# Altium integrated library TI_Logic_Specialty_Logic.IntLib: 2504 symbols (part 48 of 81)
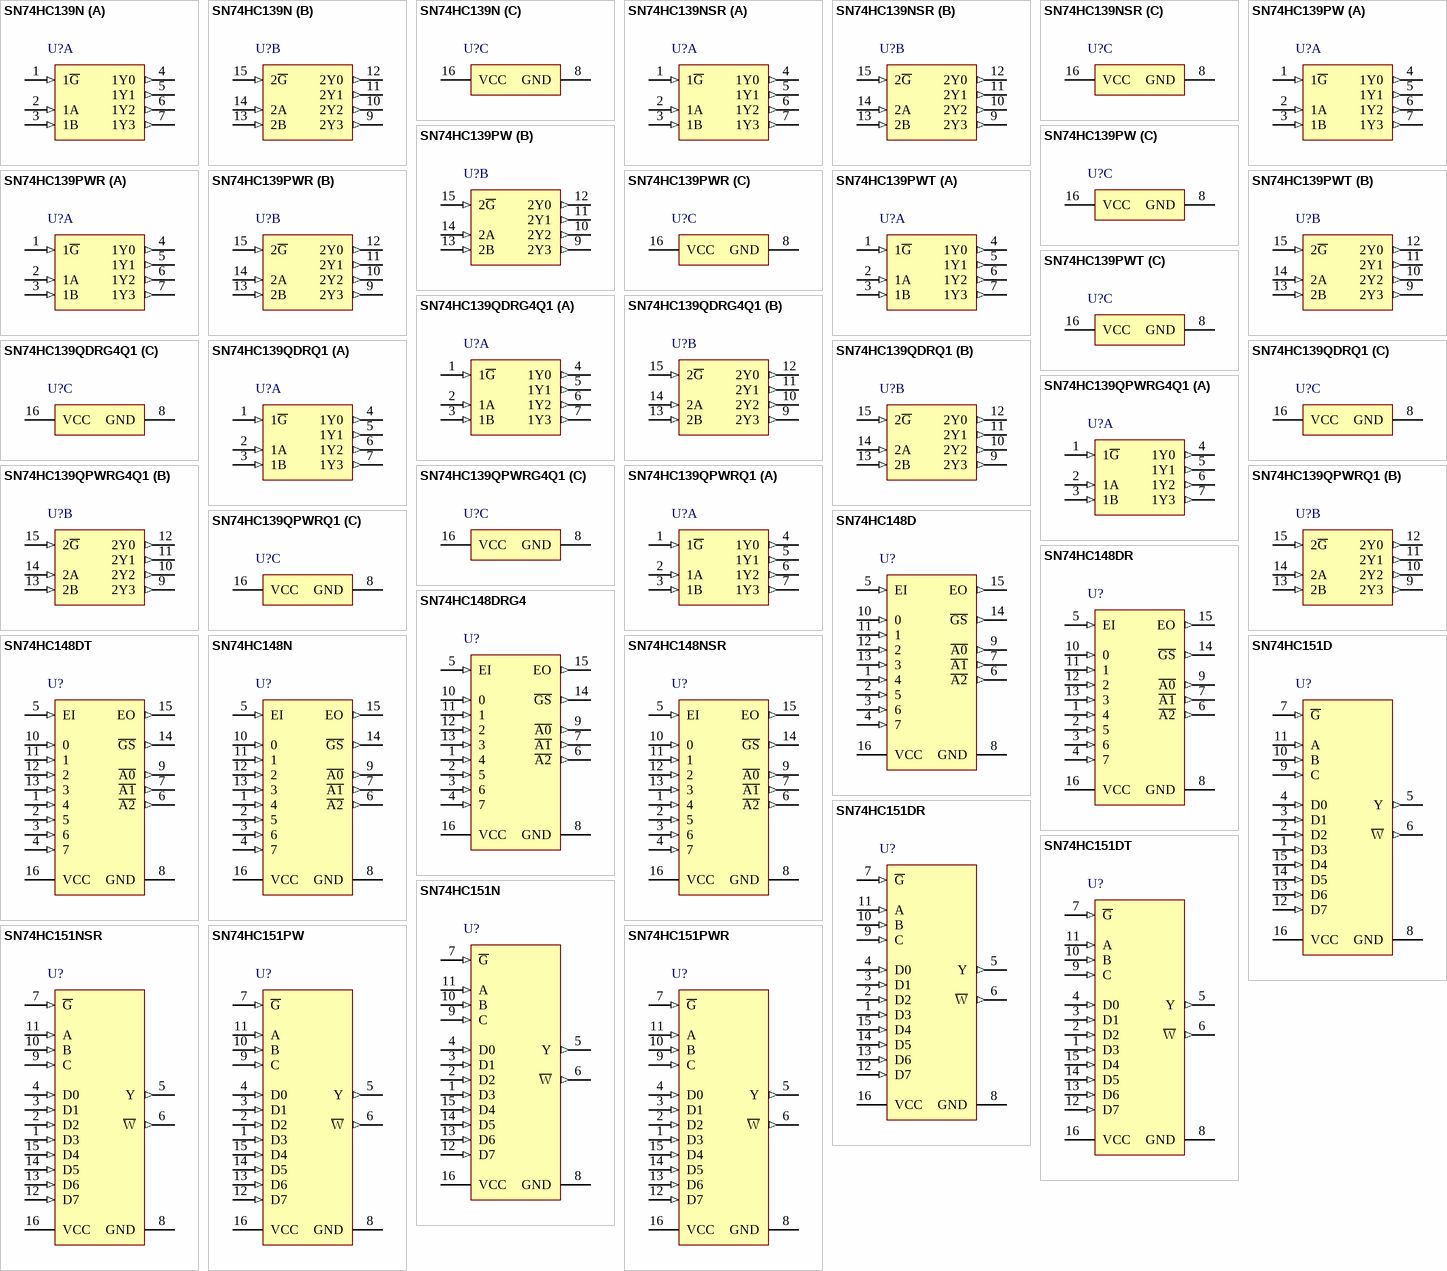
[diagram p151: symbols SN74HC139N to SN74HC151PWR]

## SN74HC151NSR
designator U?
8-Line To 1-Line Data Selectors/Multiplexers, NS0016A, LARGE T&R; Generic Part Number: SN74HC151; Manufacturer: Texas Instruments; PartNumber: SN74HC151NSR; VCC(Min)(V): 2; VCC(Max)(V): 6; Output Type: CMOS; Function: Encoder/Multiplexer; ICC @ Nom Voltage(Max)(mA): 0.08; Input Type: LVTTL/CMOS; Bits(#): 8; F @ Nom Voltage(Max)(Mhz): 28; Configuration: 8：1; Channels(#): 1; Rating: Catalog; Technology Family: HC; Voltage(Nom)(V): 3.3,5; Schmitt Trigger: No; Output Drive (IOL/IOH)(Max)(mA): 7.8/-7.8; tpd @ Nom Voltage(Max)(ns): 63; DatasheetVersion: SCLS110E; PackageReference: NS0016A; Supplier 1: Mouser; Supplier Part Number 1: 595-SN74HC151NSR; Supplier 2: Digi-Key; Supplier Part Number 2: 296-38794-2-ND; Supplier 3: Digi-Key; Supplier Part Number 3: 296-38794-1-ND; Supplier 4: Digi-Key; Supplier Part Number 4: 296-38794-6-ND; Operating Temperature Range(C): -40 to 85; Type: Standard; ComponentLink1Description: Manufacturer URL; ComponentLink1URL: http://www.ti.com/; ComponentLink2Description: Datasheet; ComponentLink2URL: http://www.ti.com/lit/ds/symlink/sn74hc151.pdf; ComponentLink3Description: Package Specification; ComponentLink3URL: http://www.ti.com/lit/ml/msop002a/msop002a.pdf
footprint NS0016A_N (SOIC,16-Leads,Body 10.5x5.6mm,Pitch 1.27mm,IPC Medium Density)
footprint NS0016A_M (SOIC,16-Leads,Body 10.5x5.6mm,Pitch 1.27mm,IPC Low Density)
footprint NS0016A_L (SOIC,16-Leads,Body 10.5x5.6mm,Pitch 1.27mm,IPC High Density)
pins: 1 D3 (in), 2 D2 (in), 3 D1 (in), 4 D0 (in), 5 Y (out), 6 ~{W} (out), 7 ~{G} (in), 8 GND (power), 9 C (in), 10 B (in), 11 A (in), 12 D7 (in), 13 D6 (in), 14 D5 (in), 15 D4 (in), 16 VCC (power)

## SN74HC151PW
designator U?
8-Line To 1-Line Data Selectors/Multiplexers, PW0016A, TUBE; Generic Part Number: SN74HC151; Manufacturer: Texas Instruments; PartNumber: SN74HC151PW; VCC(Min)(V): 2; VCC(Max)(V): 6; Output Type: CMOS; Function: Encoder/Multiplexer; ICC @ Nom Voltage(Max)(mA): 0.08; Input Type: LVTTL/CMOS; Bits(#): 8; F @ Nom Voltage(Max)(Mhz): 28; Configuration: 8：1; Channels(#): 1; Rating: Catalog; Technology Family: HC; Voltage(Nom)(V): 3.3,5; Schmitt Trigger: No; Output Drive (IOL/IOH)(Max)(mA): 7.8/-7.8; tpd @ Nom Voltage(Max)(ns): 63; DatasheetVersion: SCLS110E; PackageReference: PW0016A; Supplier 1: Mouser; Supplier Part Number 1: 595-SN74HC151PW; Supplier 2: Digi-Key; Supplier Part Number 2: 296-33918-5-ND; Operating Temperature Range(C): -40 to 85; Type: Standard; Code_JEDEC: MO-153; ComponentLink1Description: Manufacturer URL; ComponentLink1URL: http://www.ti.com/; ComponentLink2Description: Datasheet; ComponentLink2URL: http://www.ti.com/lit/ds/symlink/sn74hc151.pdf; ComponentLink3Description: Package Specification; ComponentLink3URL: http://www.ti.com/lit/ml/mpds361/mpds361.pdf
footprint PW0016A_N (SOP, 16-Leads, Body 5.1x4.5mm, Pitch 0.65mm, IPC Medium Density)
footprint PW0016A_M (SOP, 16-Leads, Body 5.1x4.5mm, Pitch 0.65mm, IPC Low Density)
footprint PW0016A_L (SOP, 16-Leads, Body 5.1x4.5mm, Pitch 0.65mm, IPC High Density)
pins: 1 D3 (in), 2 D2 (in), 3 D1 (in), 4 D0 (in), 5 Y (out), 6 ~{W} (out), 7 ~{G} (in), 8 GND (power), 9 C (in), 10 B (in), 11 A (in), 12 D7 (in), 13 D6 (in), 14 D5 (in), 15 D4 (in), 16 VCC (power)

## SN74HC151PWR
designator U?
8-Line To 1-Line Data Selectors/Multiplexers, PW0016A, LARGE T&R; Generic Part Number: SN74HC151; Manufacturer: Texas Instruments; PartNumber: SN74HC151PWR; VCC(Min)(V): 2; VCC(Max)(V): 6; Output Type: CMOS; Function: Encoder/Multiplexer; ICC @ Nom Voltage(Max)(mA): 0.08; Input Type: LVTTL/CMOS; Bits(#): 8; F @ Nom Voltage(Max)(Mhz): 28; Configuration: 8：1; Channels(#): 1; Rating: Catalog; Technology Family: HC; Voltage(Nom)(V): 3.3,5; Schmitt Trigger: No; Output Drive (IOL/IOH)(Max)(mA): 7.8/-7.8; tpd @ Nom Voltage(Max)(ns): 63; DatasheetVersion: SCLS110E; PackageReference: PW0016A; Supplier 1: Mouser; Supplier Part Number 1: 595-SN74HC151PWR; Supplier 2: Digi-Key; Supplier Part Number 2: 296-31785-2-ND; Supplier 3: Digi-Key; Supplier Part Number 3: 296-31785-1-ND; Supplier 4: Digi-Key; Supplier Part Number 4: 296-31785-6-ND; Operating Temperature Range(C): -40 to 85; Type: Standard; Code_JEDEC: MO-153; ComponentLink1Description: Manufacturer URL; ComponentLink1URL: http://www.ti.com/; ComponentLink2Description: Datasheet; ComponentLink2URL: http://www.ti.com/lit/ds/symlink/sn74hc151.pdf; ComponentLink3Description: Package Specification; ComponentLink3URL: http://www.ti.com/lit/ml/mpds361/mpds361.pdf
footprint PW0016A_N (SOP, 16-Leads, Body 5.1x4.5mm, Pitch 0.65mm, IPC Medium Density)
footprint PW0016A_M (SOP, 16-Leads, Body 5.1x4.5mm, Pitch 0.65mm, IPC Low Density)
footprint PW0016A_L (SOP, 16-Leads, Body 5.1x4.5mm, Pitch 0.65mm, IPC High Density)
pins: 1 D3 (in), 2 D2 (in), 3 D1 (in), 4 D0 (in), 5 Y (out), 6 ~{W} (out), 7 ~{G} (in), 8 GND (power), 9 C (in), 10 B (in), 11 A (in), 12 D7 (in), 13 D6 (in), 14 D5 (in), 15 D4 (in), 16 VCC (power)

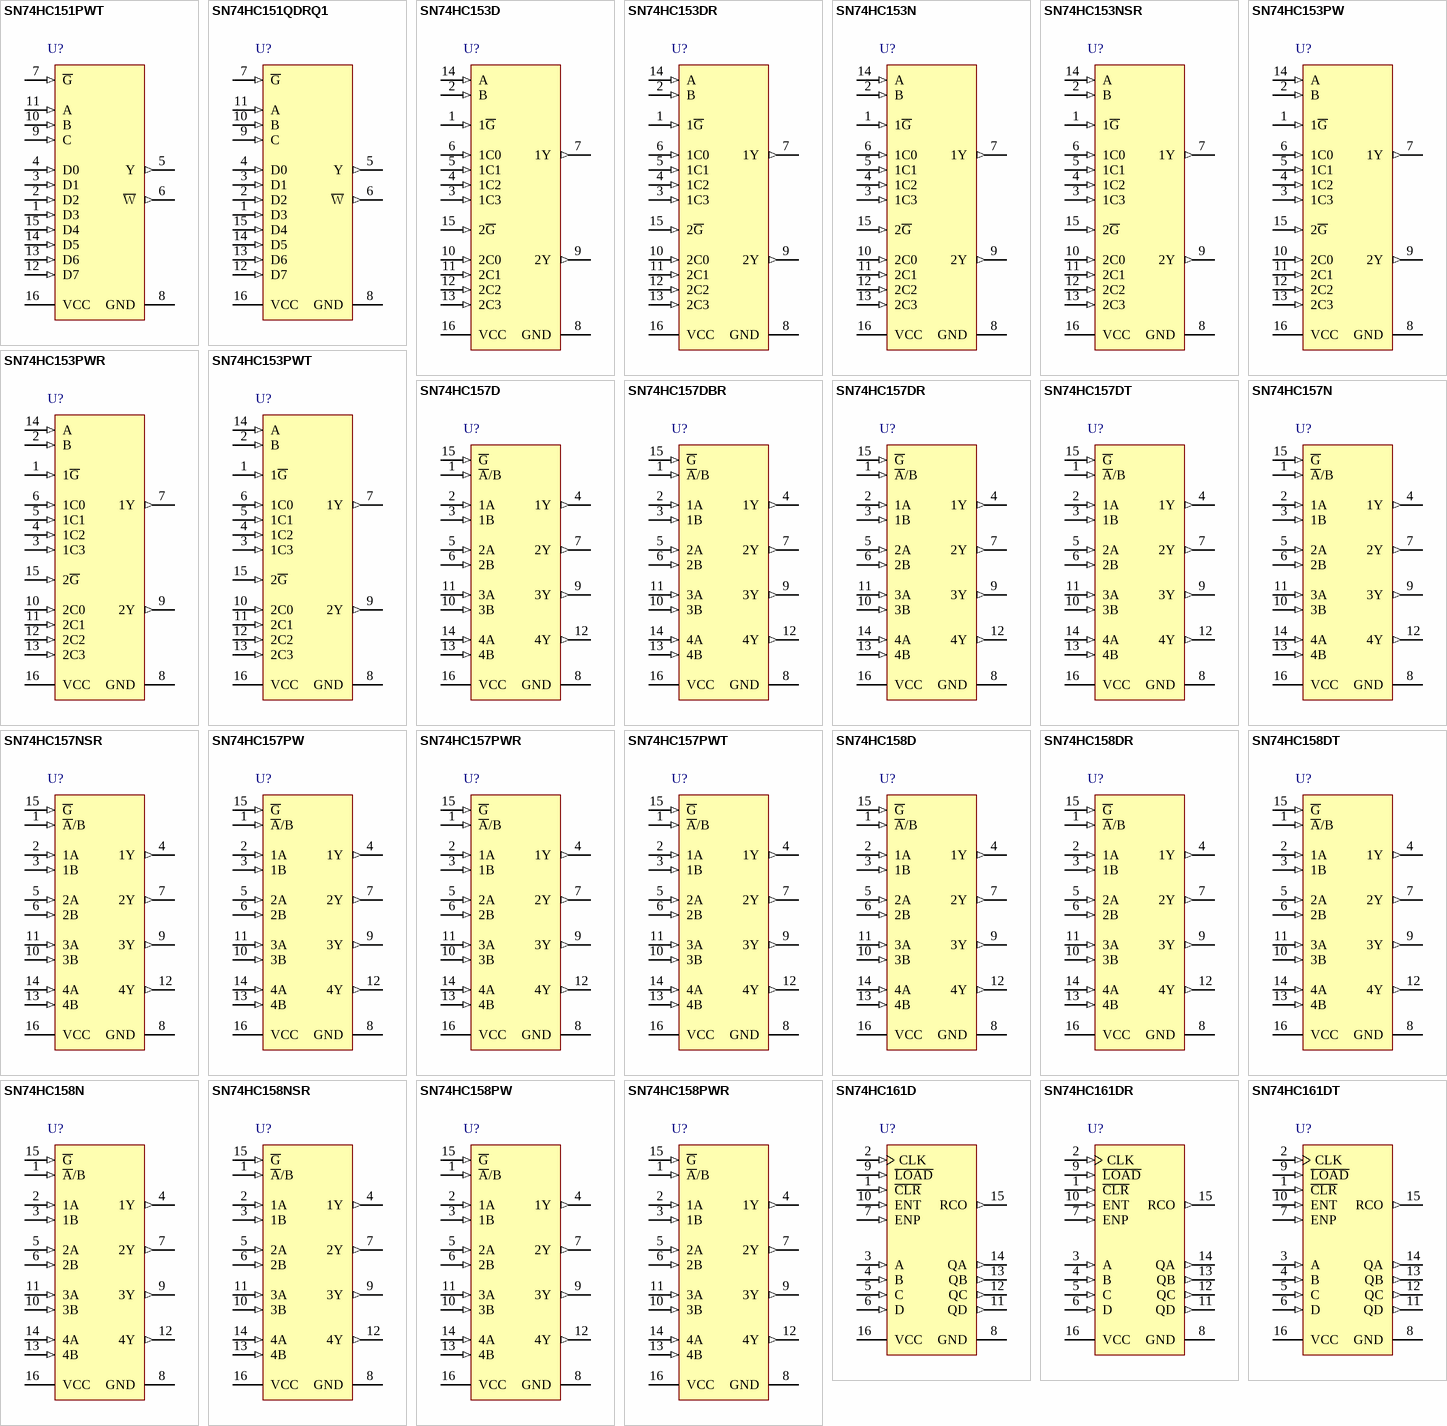
[diagram p61: symbols SN74HC151PWT to SN74HC161DT]

## SN74HC151PWT
designator U?
8-Line To 1-Line Data Selectors/Multiplexers, PW0016A, SMALL T&R; Generic Part Number: SN74HC151; Manufacturer: Texas Instruments; PartNumber: SN74HC151PWT; VCC(Min)(V): 2; VCC(Max)(V): 6; Output Type: CMOS; Function: Encoder/Multiplexer; ICC @ Nom Voltage(Max)(mA): 0.08; Input Type: LVTTL/CMOS; Bits(#): 8; F @ Nom Voltage(Max)(Mhz): 28; Configuration: 8：1; Channels(#): 1; Rating: Catalog; Technology Family: HC; Voltage(Nom)(V): 3.3,5; Schmitt Trigger: No; Output Drive (IOL/IOH)(Max)(mA): 7.8/-7.8; tpd @ Nom Voltage(Max)(ns): 63; DatasheetVersion: SCLS110E; PackageReference: PW0016A; Supplier 1: Mouser; Supplier Part Number 1: 595-SN74HC151PWT; Supplier 2: Digi-Key; Supplier Part Number 2: 296-31786-2-ND; Supplier 3: Digi-Key; Supplier Part Number 3: 296-31786-1-ND; Supplier 4: Digi-Key; Supplier Part Number 4: 296-31786-6-ND; Operating Temperature Range(C): -40 to 85; Type: Standard; Code_JEDEC: MO-153; ComponentLink1Description: Manufacturer URL; ComponentLink1URL: http://www.ti.com/; ComponentLink2Description: Datasheet; ComponentLink2URL: http://www.ti.com/lit/ds/symlink/sn74hc151.pdf; ComponentLink3Description: Package Specification; ComponentLink3URL: http://www.ti.com/lit/ml/mpds361/mpds361.pdf
footprint PW0016A_N (SOP, 16-Leads, Body 5.1x4.5mm, Pitch 0.65mm, IPC Medium Density)
footprint PW0016A_M (SOP, 16-Leads, Body 5.1x4.5mm, Pitch 0.65mm, IPC Low Density)
footprint PW0016A_L (SOP, 16-Leads, Body 5.1x4.5mm, Pitch 0.65mm, IPC High Density)
pins: 1 D3 (in), 2 D2 (in), 3 D1 (in), 4 D0 (in), 5 Y (out), 6 ~{W} (out), 7 ~{G} (in), 8 GND (power), 9 C (in), 10 B (in), 11 A (in), 12 D7 (in), 13 D6 (in), 14 D5 (in), 15 D4 (in), 16 VCC (power)

## SN74HC151QDRQ1
designator U?
Automotive Catalog 8-Line to 1-Line Data Selector/Multiplexer, D0016A, LARGE T&R; Generic Part Number: SN74HC151-Q1; Manufacturer: Texas Instruments; PartNumber: SN74HC151QDRQ1; VCC(Min)(V): 2; VCC(Max)(V): 6; Output Type: CMOS; ICC @ Nom Voltage(Max)(mA): 0.08; Input Type: LVTTL/CMOS; Bits(#): 8; F @ Nom Voltage(Max)(Mhz): 28; Channels(#): 1; Technology Family: HC; Voltage(Nom)(V): 3.3,5; Schmitt Trigger: No; Output Drive (IOL/IOH)(Max)(mA): 7.8/-7.8; tpd @ Nom Voltage(Max)(ns): 63; DatasheetVersion: SCLS701B; PackageReference: D0016A; Supplier 1: Mouser; Supplier Part Number 1: 595-SN74HC151QDRQ1; Supplier 2: Digi-Key; Supplier Part Number 2: 296-31787-2-ND; Supplier 3: Digi-Key; Supplier Part Number 3: 296-31787-1-ND; Supplier 4: Digi-Key; Supplier Part Number 4: 296-31787-6-ND; Operating Temperature Range(C): -40 to 125; Type: Standard; Rating: Automotive; Code_JEDEC: MS-012 variation AC; ComponentLink1Description: Manufacturer URL; ComponentLink1URL: http://www.ti.com/; ComponentLink2Description: Datasheet; ComponentLink2URL: http://www.ti.com/lit/ds/symlink/sn74hc151-q1.pdf; ComponentLink3Description: Package Specification; ComponentLink3URL: http://www.ti.com/lit/ml/mpds178g/mpds178g.pdf
footprint D0016A_N (SOIC, 16-Leads, Body 10x4mm, Pitch 1.27mm, IPC Medium Density)
footprint D0016A_M (SOIC, 16-Leads, Body 10x4mm, Pitch 1.27mm, IPC Low Density)
footprint D0016A_L (SOIC, 16-Leads, Body 10x4mm, Pitch 1.27mm, IPC High Density)
pins: 1 D3 (in), 2 D2 (in), 3 D1 (in), 4 D0 (in), 5 Y (out), 6 ~{W} (out), 7 ~{G} (in), 8 GND (power), 9 C (in), 10 B (in), 11 A (in), 12 D7 (in), 13 D6 (in), 14 D5 (in), 15 D4 (in), 16 VCC (power)

## SN74HC153D
designator U?
Dual 4-Line To 1-Line Data Selectors/Multiplexers, D0016A, TUBE; Generic Part Number: SN74HC153; Manufacturer: Texas Instruments; PartNumber: SN74HC153D; VCC(Min)(V): 2; VCC(Max)(V): 6; Output Type: CMOS; Function: Encoder/Multiplexer; ICC @ Nom Voltage(Max)(mA): 8; Input Type: LVTTL/CMOS; Bits(#): 4; F @ Nom Voltage(Max)(Mhz): 28; Configuration: 4：1; Rating: Catalog; Technology Family: HC; Voltage(Nom)(V): 3.3,5; Schmitt Trigger: No; Output Drive (IOL/IOH)(Max)(mA): 7.8/-7.8; tpd @ Nom Voltage(Max)(ns): 38; DatasheetVersion: SCLS112D; PackageReference: D0016A; Supplier 1: Mouser; Supplier Part Number 1: 595-SN74HC153D; Supplier 2: Digi-Key; Supplier Part Number 2: 296-8237-5-ND; Operating Temperature Range(C): -40 to 85; Type: Standard; Channels(#): 2; Code_JEDEC: MS-012 variation AC; ComponentLink1Description: Manufacturer URL; ComponentLink1URL: http://www.ti.com/; ComponentLink2Description: Datasheet; ComponentLink2URL: http://www.ti.com/lit/ds/symlink/sn74hc153.pdf; ComponentLink3Description: Package Specification; ComponentLink3URL: http://www.ti.com/lit/ml/mpds178g/mpds178g.pdf
footprint D0016A_N (SOIC, 16-Leads, Body 10x4mm, Pitch 1.27mm, IPC Medium Density)
footprint D0016A_M (SOIC, 16-Leads, Body 10x4mm, Pitch 1.27mm, IPC Low Density)
footprint D0016A_L (SOIC, 16-Leads, Body 10x4mm, Pitch 1.27mm, IPC High Density)
pins: 1 1~{G} (in), 2 B (in), 3 1C3 (in), 4 1C2 (in), 5 1C1 (in), 6 1C0 (in), 7 1Y (out), 8 GND (power), 9 2Y (out), 10 2C0 (in), 11 2C1 (in), 12 2C2 (in), 13 2C3 (in), 14 A (in), 15 2~{G} (in), 16 VCC (power)

## SN74HC153DR
designator U?
Dual 4-Line To 1-Line Data Selectors/Multiplexers, D0016A, LARGE T&R; Generic Part Number: SN74HC153; Manufacturer: Texas Instruments; PartNumber: SN74HC153DR; VCC(Min)(V): 2; VCC(Max)(V): 6; Output Type: CMOS; Function: Encoder/Multiplexer; ICC @ Nom Voltage(Max)(mA): 8; Input Type: LVTTL/CMOS; Bits(#): 4; F @ Nom Voltage(Max)(Mhz): 28; Configuration: 4：1; Rating: Catalog; Technology Family: HC; Voltage(Nom)(V): 3.3,5; Schmitt Trigger: No; Output Drive (IOL/IOH)(Max)(mA): 7.8/-7.8; tpd @ Nom Voltage(Max)(ns): 38; DatasheetVersion: SCLS112D; PackageReference: D0016A; Supplier 1: Mouser; Supplier Part Number 1: 595-SN74HC153DR; Supplier 2: Digi-Key; Supplier Part Number 2: 296-14835-2-ND; Supplier 3: Digi-Key; Supplier Part Number 3: 296-14835-1-ND; Supplier 4: Digi-Key; Supplier Part Number 4: 296-14835-6-ND; Operating Temperature Range(C): -40 to 85; Type: Standard; Channels(#): 2; Code_JEDEC: MS-012 variation AC; ComponentLink1Description: Manufacturer URL; ComponentLink1URL: http://www.ti.com/; ComponentLink2Description: Datasheet; ComponentLink2URL: http://www.ti.com/lit/ds/symlink/sn74hc153.pdf; ComponentLink3Description: Package Specification; ComponentLink3URL: http://www.ti.com/lit/ml/mpds178g/mpds178g.pdf
footprint D0016A_N (SOIC, 16-Leads, Body 10x4mm, Pitch 1.27mm, IPC Medium Density)
footprint D0016A_M (SOIC, 16-Leads, Body 10x4mm, Pitch 1.27mm, IPC Low Density)
footprint D0016A_L (SOIC, 16-Leads, Body 10x4mm, Pitch 1.27mm, IPC High Density)
pins: 1 1~{G} (in), 2 B (in), 3 1C3 (in), 4 1C2 (in), 5 1C1 (in), 6 1C0 (in), 7 1Y (out), 8 GND (power), 9 2Y (out), 10 2C0 (in), 11 2C1 (in), 12 2C2 (in), 13 2C3 (in), 14 A (in), 15 2~{G} (in), 16 VCC (power)

## SN74HC153N
designator U?
Dual 4-Line To 1-Line Data Selectors/Multiplexers, N0016A, TUBE; Generic Part Number: SN74HC153; Manufacturer: Texas Instruments; PartNumber: SN74HC153N; VCC(Min)(V): 2; VCC(Max)(V): 6; Output Type: CMOS; Function: Encoder/Multiplexer; ICC @ Nom Voltage(Max)(mA): 8; Input Type: LVTTL/CMOS; Bits(#): 4; F @ Nom Voltage(Max)(Mhz): 28; Configuration: 4：1; Rating: Catalog; Technology Family: HC; Voltage(Nom)(V): 3.3,5; Schmitt Trigger: No; Output Drive (IOL/IOH)(Max)(mA): 7.8/-7.8; tpd @ Nom Voltage(Max)(ns): 38; DatasheetVersion: SCLS112D; PackageReference: N0016A; Supplier 1: Mouser; Supplier Part Number 1: 595-SN74HC153N; Supplier 2: Digi-Key; Supplier Part Number 2: 296-8238-5-ND; Operating Temperature Range(C): -40 to 85; Type: Standard; Channels(#): 2; Code_JEDEC: MS-001; ComponentLink1Description: Manufacturer URL; ComponentLink1URL: http://www.ti.com/; ComponentLink2Description: Datasheet; ComponentLink2URL: http://www.ti.com/lit/ds/symlink/sn74hc153.pdf; ComponentLink3Description: Package Specification; ComponentLink3URL: http://www.ti.com/lit/ml/mpdi002c/mpdi002c.pdf
footprint N0016A (DIP, 16-Leads, Body 19.7x6.6mm, Pitch 2.54mm)
pins: 1 1~{G} (in), 2 B (in), 3 1C3 (in), 4 1C2 (in), 5 1C1 (in), 6 1C0 (in), 7 1Y (out), 8 GND (power), 9 2Y (out), 10 2C0 (in), 11 2C1 (in), 12 2C2 (in), 13 2C3 (in), 14 A (in), 15 2~{G} (in), 16 VCC (power)

## SN74HC153NSR
designator U?
Dual 4-Line To 1-Line Data Selectors/Multiplexers, NS0016A, LARGE T&R; Generic Part Number: SN74HC153; Manufacturer: Texas Instruments; PartNumber: SN74HC153NSR; VCC(Min)(V): 2; VCC(Max)(V): 6; Output Type: CMOS; Function: Encoder/Multiplexer; ICC @ Nom Voltage(Max)(mA): 8; Input Type: LVTTL/CMOS; Bits(#): 4; F @ Nom Voltage(Max)(Mhz): 28; Configuration: 4：1; Rating: Catalog; Technology Family: HC; Voltage(Nom)(V): 3.3,5; Schmitt Trigger: No; Output Drive (IOL/IOH)(Max)(mA): 7.8/-7.8; tpd @ Nom Voltage(Max)(ns): 38; DatasheetVersion: SCLS112D; PackageReference: NS0016A; Supplier 1: Mouser; Supplier Part Number 1: 595-SN74HC153NSR; Supplier 2: Digi-Key; Supplier Part Number 2: 296-28656-2-ND; Supplier 3: Digi-Key; Supplier Part Number 3: 296-28656-1-ND; Supplier 4: Digi-Key; Supplier Part Number 4: 296-28656-6-ND; Operating Temperature Range(C): -40 to 85; Type: Standard; Channels(#): 2; ComponentLink1Description: Manufacturer URL; ComponentLink1URL: http://www.ti.com/; ComponentLink2Description: Datasheet; ComponentLink2URL: http://www.ti.com/lit/ds/symlink/sn74hc153.pdf; ComponentLink3Description: Package Specification; ComponentLink3URL: http://www.ti.com/lit/ml/msop002a/msop002a.pdf
footprint NS0016A_N (SOIC,16-Leads,Body 10.5x5.6mm,Pitch 1.27mm,IPC Medium Density)
footprint NS0016A_M (SOIC,16-Leads,Body 10.5x5.6mm,Pitch 1.27mm,IPC Low Density)
footprint NS0016A_L (SOIC,16-Leads,Body 10.5x5.6mm,Pitch 1.27mm,IPC High Density)
pins: 1 1~{G} (in), 2 B (in), 3 1C3 (in), 4 1C2 (in), 5 1C1 (in), 6 1C0 (in), 7 1Y (out), 8 GND (power), 9 2Y (out), 10 2C0 (in), 11 2C1 (in), 12 2C2 (in), 13 2C3 (in), 14 A (in), 15 2~{G} (in), 16 VCC (power)

## SN74HC153PW
designator U?
Dual 4-Line To 1-Line Data Selectors/Multiplexers, PW0016A, TUBE; Generic Part Number: SN74HC153; Manufacturer: Texas Instruments; PartNumber: SN74HC153PW; VCC(Min)(V): 2; VCC(Max)(V): 6; Output Type: CMOS; Function: Encoder/Multiplexer; ICC @ Nom Voltage(Max)(mA): 8; Input Type: LVTTL/CMOS; Bits(#): 4; F @ Nom Voltage(Max)(Mhz): 28; Configuration: 4：1; Rating: Catalog; Technology Family: HC; Voltage(Nom)(V): 3.3,5; Schmitt Trigger: No; Output Drive (IOL/IOH)(Max)(mA): 7.8/-7.8; tpd @ Nom Voltage(Max)(ns): 38; DatasheetVersion: SCLS112D; PackageReference: PW0016A; Supplier 1: Mouser; Supplier Part Number 1: 595-SN74HC153PW; Supplier 2: Digi-Key; Supplier Part Number 2: 296-33919-5-ND; Operating Temperature Range(C): -40 to 85; Type: Standard; Channels(#): 2; Code_JEDEC: MO-153; ComponentLink1Description: Manufacturer URL; ComponentLink1URL: http://www.ti.com/; ComponentLink2Description: Datasheet; ComponentLink2URL: http://www.ti.com/lit/ds/symlink/sn74hc153.pdf; ComponentLink3Description: Package Specification; ComponentLink3URL: http://www.ti.com/lit/ml/mpds361/mpds361.pdf
footprint PW0016A_N (SOP, 16-Leads, Body 5.1x4.5mm, Pitch 0.65mm, IPC Medium Density)
footprint PW0016A_M (SOP, 16-Leads, Body 5.1x4.5mm, Pitch 0.65mm, IPC Low Density)
footprint PW0016A_L (SOP, 16-Leads, Body 5.1x4.5mm, Pitch 0.65mm, IPC High Density)
pins: 1 1~{G} (in), 2 B (in), 3 1C3 (in), 4 1C2 (in), 5 1C1 (in), 6 1C0 (in), 7 1Y (out), 8 GND (power), 9 2Y (out), 10 2C0 (in), 11 2C1 (in), 12 2C2 (in), 13 2C3 (in), 14 A (in), 15 2~{G} (in), 16 VCC (power)

## SN74HC153PWR
designator U?
Dual 4-Line To 1-Line Data Selectors/Multiplexers, PW0016A, LARGE T&R; Generic Part Number: SN74HC153; Manufacturer: Texas Instruments; PartNumber: SN74HC153PWR; VCC(Min)(V): 2; VCC(Max)(V): 6; Output Type: CMOS; Function: Encoder/Multiplexer; ICC @ Nom Voltage(Max)(mA): 8; Input Type: LVTTL/CMOS; Bits(#): 4; F @ Nom Voltage(Max)(Mhz): 28; Configuration: 4：1; Rating: Catalog; Technology Family: HC; Voltage(Nom)(V): 3.3,5; Schmitt Trigger: No; Output Drive (IOL/IOH)(Max)(mA): 7.8/-7.8; tpd @ Nom Voltage(Max)(ns): 38; DatasheetVersion: SCLS112D; PackageReference: PW0016A; Supplier 1: Mouser; Supplier Part Number 1: 595-SN74HC153PWR; Supplier 2: Digi-Key; Supplier Part Number 2: 296-12888-2-ND; Supplier 3: Digi-Key; Supplier Part Number 3: 296-12888-1-ND; Supplier 4: Digi-Key; Supplier Part Number 4: 296-12888-6-ND; Operating Temperature Range(C): -40 to 85; Type: Standard; Channels(#): 2; Code_JEDEC: MO-153; ComponentLink1Description: Manufacturer URL; ComponentLink1URL: http://www.ti.com/; ComponentLink2Description: Datasheet; ComponentLink2URL: http://www.ti.com/lit/ds/symlink/sn74hc153.pdf; ComponentLink3Description: Package Specification; ComponentLink3URL: http://www.ti.com/lit/ml/mpds361/mpds361.pdf
footprint PW0016A_N (SOP, 16-Leads, Body 5.1x4.5mm, Pitch 0.65mm, IPC Medium Density)
footprint PW0016A_M (SOP, 16-Leads, Body 5.1x4.5mm, Pitch 0.65mm, IPC Low Density)
footprint PW0016A_L (SOP, 16-Leads, Body 5.1x4.5mm, Pitch 0.65mm, IPC High Density)
pins: 1 1~{G} (in), 2 B (in), 3 1C3 (in), 4 1C2 (in), 5 1C1 (in), 6 1C0 (in), 7 1Y (out), 8 GND (power), 9 2Y (out), 10 2C0 (in), 11 2C1 (in), 12 2C2 (in), 13 2C3 (in), 14 A (in), 15 2~{G} (in), 16 VCC (power)

## SN74HC153PWT
designator U?
Dual 4-Line To 1-Line Data Selectors/Multiplexers, PW0016A, SMALL T&R; Generic Part Number: SN74HC153; Manufacturer: Texas Instruments; PartNumber: SN74HC153PWT; VCC(Min)(V): 2; VCC(Max)(V): 6; Output Type: CMOS; Function: Encoder/Multiplexer; ICC @ Nom Voltage(Max)(mA): 8; Input Type: LVTTL/CMOS; Bits(#): 4; F @ Nom Voltage(Max)(Mhz): 28; Configuration: 4：1; Rating: Catalog; Technology Family: HC; Voltage(Nom)(V): 3.3,5; Schmitt Trigger: No; Output Drive (IOL/IOH)(Max)(mA): 7.8/-7.8; tpd @ Nom Voltage(Max)(ns): 38; DatasheetVersion: SCLS112D; PackageReference: PW0016A; Supplier 1: Mouser; Supplier Part Number 1: 595-SN74HC153PWT; Supplier 2: Digi-Key; Supplier Part Number 2: 296-31788-2-ND; Supplier 3: Digi-Key; Supplier Part Number 3: 296-31788-1-ND; Supplier 4: Digi-Key; Supplier Part Number 4: 296-31788-6-ND; Operating Temperature Range(C): -40 to 85; Type: Standard; Channels(#): 2; Code_JEDEC: MO-153; ComponentLink1Description: Manufacturer URL; ComponentLink1URL: http://www.ti.com/; ComponentLink2Description: Datasheet; ComponentLink2URL: http://www.ti.com/lit/ds/symlink/sn74hc153.pdf; ComponentLink3Description: Package Specification; ComponentLink3URL: http://www.ti.com/lit/ml/mpds361/mpds361.pdf
footprint PW0016A_N (SOP, 16-Leads, Body 5.1x4.5mm, Pitch 0.65mm, IPC Medium Density)
footprint PW0016A_M (SOP, 16-Leads, Body 5.1x4.5mm, Pitch 0.65mm, IPC Low Density)
footprint PW0016A_L (SOP, 16-Leads, Body 5.1x4.5mm, Pitch 0.65mm, IPC High Density)
pins: 1 1~{G} (in), 2 B (in), 3 1C3 (in), 4 1C2 (in), 5 1C1 (in), 6 1C0 (in), 7 1Y (out), 8 GND (power), 9 2Y (out), 10 2C0 (in), 11 2C1 (in), 12 2C2 (in), 13 2C3 (in), 14 A (in), 15 2~{G} (in), 16 VCC (power)

## SN74HC157D
designator U?
Quadruple 2-Line To 1-Line Data Selectors/Multiplexers, D0016A, TUBE; Generic Part Number: SN74HC157; Manufacturer: Texas Instruments; PartNumber: SN74HC157D; VCC(Min)(V): 2; VCC(Max)(V): 6; Output Type: CMOS; Function: Encoder/Multiplexer; ICC @ Nom Voltage(Max)(mA): 10; Input Type: LVTTL/CMOS; F @ Nom Voltage(Max)(Mhz): 28; Configuration: 2：1; Channels(#): 4; Rating: Catalog; Technology Family: HC; Voltage(Nom)(V): 3.3,5; Schmitt Trigger: No; Output Drive (IOL/IOH)(Max)(mA): 7.8/-7.8; tpd @ Nom Voltage(Max)(ns): 32; DatasheetVersion: SCLS113D; PackageReference: D0016A; Supplier 1: Mouser; Supplier Part Number 1: 595-SN74HC157D; Supplier 2: Digi-Key; Supplier Part Number 2: 296-8239-5-ND; Bits(#): 2; Operating Temperature Range(C): -40 to 85; Type: Standard; Code_JEDEC: MS-012 variation AC; ComponentLink1Description: Manufacturer URL; ComponentLink1URL: http://www.ti.com/; ComponentLink2Description: Datasheet; ComponentLink2URL: http://www.ti.com/lit/ds/symlink/sn74hc157.pdf; ComponentLink3Description: Package Specification; ComponentLink3URL: http://www.ti.com/lit/ml/mpds178g/mpds178g.pdf
footprint D0016A_N (SOIC, 16-Leads, Body 10x4mm, Pitch 1.27mm, IPC Medium Density)
footprint D0016A_M (SOIC, 16-Leads, Body 10x4mm, Pitch 1.27mm, IPC Low Density)
footprint D0016A_L (SOIC, 16-Leads, Body 10x4mm, Pitch 1.27mm, IPC High Density)
pins: 1 ~{A}/B (in), 2 1A (in), 3 1B (in), 4 1Y (out), 5 2A (in), 6 2B (in), 7 2Y (out), 8 GND (power), 9 3Y (out), 10 3B (in), 11 3A (in), 12 4Y (out), 13 4B (in), 14 4A (in), 15 ~{G} (in), 16 VCC (power)

## SN74HC157DBR
designator U?
Quadruple 2-Line To 1-Line Data Selectors/Multiplexers, DB0016A, LARGE T&R; Generic Part Number: SN74HC157; Manufacturer: Texas Instruments; PartNumber: SN74HC157DBR; VCC(Min)(V): 2; VCC(Max)(V): 6; Output Type: CMOS; Function: Encoder/Multiplexer; ICC @ Nom Voltage(Max)(mA): 10; Input Type: LVTTL/CMOS; F @ Nom Voltage(Max)(Mhz): 28; Configuration: 2：1; Channels(#): 4; Rating: Catalog; Technology Family: HC; Voltage(Nom)(V): 3.3,5; Schmitt Trigger: No; Output Drive (IOL/IOH)(Max)(mA): 7.8/-7.8; tpd @ Nom Voltage(Max)(ns): 32; DatasheetVersion: SCLS113D; PackageReference: DB0016A; Supplier 1: Mouser; Supplier Part Number 1: 595-SN74HC157DBR; Supplier 2: Digi-Key; Supplier Part Number 2: 296-38795-2-ND; Supplier 3: Digi-Key; Supplier Part Number 3: 296-38795-1-ND; Supplier 4: Digi-Key; Supplier Part Number 4: 296-38795-6-ND; Bits(#): 2; Operating Temperature Range(C): -40 to 85; Type: Standard; Code_JEDEC: MO-150; ComponentLink1Description: Manufacturer URL; ComponentLink1URL: http://www.ti.com/; ComponentLink2Description: Datasheet; ComponentLink2URL: http://www.ti.com/lit/ds/symlink/sn74hc157.pdf; ComponentLink3Description: Package Specification; ComponentLink3URL: http://www.ti.com/lit/ml/mpds507/mpds507.pdf
footprint DB0016A_N (SOP, 16-Leads, Body 5.6x6.5mm, Pitch 0.65mm, IPC Medium Density)
footprint DB0016A_M (SOP, 16-Leads, Body 5.6x6.5mm, Pitch 0.65mm, IPC Low Density)
footprint DB0016A_L (SOP, 16-Leads, Body 5.6x6.5mm, Pitch 0.65mm, IPC High Density)
pins: 1 ~{A}/B (in), 2 1A (in), 3 1B (in), 4 1Y (out), 5 2A (in), 6 2B (in), 7 2Y (out), 8 GND (power), 9 3Y (out), 10 3B (in), 11 3A (in), 12 4Y (out), 13 4B (in), 14 4A (in), 15 ~{G} (in), 16 VCC (power)

## SN74HC157DR
designator U?
Quadruple 2-Line To 1-Line Data Selectors/Multiplexers, D0016A, LARGE T&R; Generic Part Number: SN74HC157; Manufacturer: Texas Instruments; PartNumber: SN74HC157DR; VCC(Min)(V): 2; VCC(Max)(V): 6; Output Type: CMOS; Function: Encoder/Multiplexer; ICC @ Nom Voltage(Max)(mA): 10; Input Type: LVTTL/CMOS; F @ Nom Voltage(Max)(Mhz): 28; Configuration: 2：1; Channels(#): 4; Rating: Catalog; Technology Family: HC; Voltage(Nom)(V): 3.3,5; Schmitt Trigger: No; Output Drive (IOL/IOH)(Max)(mA): 7.8/-7.8; tpd @ Nom Voltage(Max)(ns): 32; DatasheetVersion: SCLS113D; PackageReference: D0016A; Supplier 1: Mouser; Supplier Part Number 1: 595-SN74HC157DR; Supplier 2: Digi-Key; Supplier Part Number 2: 296-14836-2-ND; Supplier 3: Digi-Key; Supplier Part Number 3: 296-14836-1-ND; Supplier 4: Digi-Key; Supplier Part Number 4: 296-14836-6-ND; Bits(#): 2; Operating Temperature Range(C): -40 to 85; Type: Standard; Code_JEDEC: MS-012 variation AC; ComponentLink1Description: Manufacturer URL; ComponentLink1URL: http://www.ti.com/; ComponentLink2Description: Datasheet; ComponentLink2URL: http://www.ti.com/lit/ds/symlink/sn74hc157.pdf; ComponentLink3Description: Package Specification; ComponentLink3URL: http://www.ti.com/lit/ml/mpds178g/mpds178g.pdf
footprint D0016A_N (SOIC, 16-Leads, Body 10x4mm, Pitch 1.27mm, IPC Medium Density)
footprint D0016A_M (SOIC, 16-Leads, Body 10x4mm, Pitch 1.27mm, IPC Low Density)
footprint D0016A_L (SOIC, 16-Leads, Body 10x4mm, Pitch 1.27mm, IPC High Density)
pins: 1 ~{A}/B (in), 2 1A (in), 3 1B (in), 4 1Y (out), 5 2A (in), 6 2B (in), 7 2Y (out), 8 GND (power), 9 3Y (out), 10 3B (in), 11 3A (in), 12 4Y (out), 13 4B (in), 14 4A (in), 15 ~{G} (in), 16 VCC (power)

## SN74HC157DT
designator U?
Quadruple 2-Line To 1-Line Data Selectors/Multiplexers, D0016A, SMALL T&R; Generic Part Number: SN74HC157; Manufacturer: Texas Instruments; PartNumber: SN74HC157DT; VCC(Min)(V): 2; VCC(Max)(V): 6; Output Type: CMOS; Function: Encoder/Multiplexer; ICC @ Nom Voltage(Max)(mA): 10; Input Type: LVTTL/CMOS; F @ Nom Voltage(Max)(Mhz): 28; Configuration: 2：1; Channels(#): 4; Rating: Catalog; Technology Family: HC; Voltage(Nom)(V): 3.3,5; Schmitt Trigger: No; Output Drive (IOL/IOH)(Max)(mA): 7.8/-7.8; tpd @ Nom Voltage(Max)(ns): 32; DatasheetVersion: SCLS113D; PackageReference: D0016A; Supplier 1: Mouser; Supplier Part Number 1: 595-SN74HC157DT; Supplier 2: Digi-Key; Supplier Part Number 2: SN74HC157DT-ND; Bits(#): 2; Operating Temperature Range(C): -40 to 85; Type: Standard; Code_JEDEC: MS-012 variation AC; ComponentLink1Description: Manufacturer URL; ComponentLink1URL: http://www.ti.com/; ComponentLink2Description: Datasheet; ComponentLink2URL: http://www.ti.com/lit/ds/symlink/sn74hc157.pdf; ComponentLink3Description: Package Specification; ComponentLink3URL: http://www.ti.com/lit/ml/mpds178g/mpds178g.pdf
footprint D0016A_N (SOIC, 16-Leads, Body 10x4mm, Pitch 1.27mm, IPC Medium Density)
footprint D0016A_M (SOIC, 16-Leads, Body 10x4mm, Pitch 1.27mm, IPC Low Density)
footprint D0016A_L (SOIC, 16-Leads, Body 10x4mm, Pitch 1.27mm, IPC High Density)
pins: 1 ~{A}/B (in), 2 1A (in), 3 1B (in), 4 1Y (out), 5 2A (in), 6 2B (in), 7 2Y (out), 8 GND (power), 9 3Y (out), 10 3B (in), 11 3A (in), 12 4Y (out), 13 4B (in), 14 4A (in), 15 ~{G} (in), 16 VCC (power)

## SN74HC157N
designator U?
Quadruple 2-Line To 1-Line Data Selectors/Multiplexers, N0016A, TUBE; Generic Part Number: SN74HC157; Manufacturer: Texas Instruments; PartNumber: SN74HC157N; VCC(Min)(V): 2; VCC(Max)(V): 6; Output Type: CMOS; Function: Encoder/Multiplexer; ICC @ Nom Voltage(Max)(mA): 10; Input Type: LVTTL/CMOS; F @ Nom Voltage(Max)(Mhz): 28; Configuration: 2：1; Channels(#): 4; Rating: Catalog; Technology Family: HC; Voltage(Nom)(V): 3.3,5; Schmitt Trigger: No; Output Drive (IOL/IOH)(Max)(mA): 7.8/-7.8; tpd @ Nom Voltage(Max)(ns): 32; DatasheetVersion: SCLS113D; PackageReference: N0016A; Supplier 1: Mouser; Supplier Part Number 1: 595-SN74HC157N; Supplier 2: Digi-Key; Supplier Part Number 2: 296-1578-5-ND; Bits(#): 2; Operating Temperature Range(C): -40 to 85; Type: Standard; Code_JEDEC: MS-001; ComponentLink1Description: Manufacturer URL; ComponentLink1URL: http://www.ti.com/; ComponentLink2Description: Datasheet; ComponentLink2URL: http://www.ti.com/lit/ds/symlink/sn74hc157.pdf; ComponentLink3Description: Package Specification; ComponentLink3URL: http://www.ti.com/lit/ml/mpdi002c/mpdi002c.pdf
footprint N0016A (DIP, 16-Leads, Body 19.7x6.6mm, Pitch 2.54mm)
pins: 1 ~{A}/B (in), 2 1A (in), 3 1B (in), 4 1Y (out), 5 2A (in), 6 2B (in), 7 2Y (out), 8 GND (power), 9 3Y (out), 10 3B (in), 11 3A (in), 12 4Y (out), 13 4B (in), 14 4A (in), 15 ~{G} (in), 16 VCC (power)

## SN74HC157NSR
designator U?
Quadruple 2-Line To 1-Line Data Selectors/Multiplexers, NS0016A, LARGE T&R; Generic Part Number: SN74HC157; Manufacturer: Texas Instruments; PartNumber: SN74HC157NSR; VCC(Min)(V): 2; VCC(Max)(V): 6; Output Type: CMOS; Function: Encoder/Multiplexer; ICC @ Nom Voltage(Max)(mA): 10; Input Type: LVTTL/CMOS; F @ Nom Voltage(Max)(Mhz): 28; Configuration: 2：1; Channels(#): 4; Rating: Catalog; Technology Family: HC; Voltage(Nom)(V): 3.3,5; Schmitt Trigger: No; Output Drive (IOL/IOH)(Max)(mA): 7.8/-7.8; tpd @ Nom Voltage(Max)(ns): 32; DatasheetVersion: SCLS113D; PackageReference: NS0016A; Supplier 1: Mouser; Supplier Part Number 1: 595-SN74HC157NSR; Supplier 2: Digi-Key; Supplier Part Number 2: 296-8240-2-ND; Supplier 3: Digi-Key; Supplier Part Number 3: 296-8240-1-ND; Supplier 4: Digi-Key; Supplier Part Number 4: 296-8240-6-ND; Bits(#): 2; Operating Temperature Range(C): -40 to 85; Type: Standard; ComponentLink1Description: Manufacturer URL; ComponentLink1URL: http://www.ti.com/; ComponentLink2Description: Datasheet; ComponentLink2URL: http://www.ti.com/lit/ds/symlink/sn74hc157.pdf; ComponentLink3Description: Package Specification; ComponentLink3URL: http://www.ti.com/lit/ml/msop002a/msop002a.pdf
footprint NS0016A_N (SOIC,16-Leads,Body 10.5x5.6mm,Pitch 1.27mm,IPC Medium Density)
footprint NS0016A_M (SOIC,16-Leads,Body 10.5x5.6mm,Pitch 1.27mm,IPC Low Density)
footprint NS0016A_L (SOIC,16-Leads,Body 10.5x5.6mm,Pitch 1.27mm,IPC High Density)
pins: 1 ~{A}/B (in), 2 1A (in), 3 1B (in), 4 1Y (out), 5 2A (in), 6 2B (in), 7 2Y (out), 8 GND (power), 9 3Y (out), 10 3B (in), 11 3A (in), 12 4Y (out), 13 4B (in), 14 4A (in), 15 ~{G} (in), 16 VCC (power)

## SN74HC157PW
designator U?
Quadruple 2-Line To 1-Line Data Selectors/Multiplexers, PW0016A, TUBE; Generic Part Number: SN74HC157; Manufacturer: Texas Instruments; PartNumber: SN74HC157PW; VCC(Min)(V): 2; VCC(Max)(V): 6; Output Type: CMOS; Function: Encoder/Multiplexer; ICC @ Nom Voltage(Max)(mA): 10; Input Type: LVTTL/CMOS; F @ Nom Voltage(Max)(Mhz): 28; Configuration: 2：1; Channels(#): 4; Rating: Catalog; Technology Family: HC; Voltage(Nom)(V): 3.3,5; Schmitt Trigger: No; Output Drive (IOL/IOH)(Max)(mA): 7.8/-7.8; tpd @ Nom Voltage(Max)(ns): 32; DatasheetVersion: SCLS113D; PackageReference: PW0016A; Supplier 1: Mouser; Supplier Part Number 1: 595-SN74HC157PW; Supplier 2: Digi-Key; Supplier Part Number 2: 296-33920-5-ND; Bits(#): 2; Operating Temperature Range(C): -40 to 85; Type: Standard; Code_JEDEC: MO-153; ComponentLink1Description: Manufacturer URL; ComponentLink1URL: http://www.ti.com/; ComponentLink2Description: Datasheet; ComponentLink2URL: http://www.ti.com/lit/ds/symlink/sn74hc157.pdf; ComponentLink3Description: Package Specification; ComponentLink3URL: http://www.ti.com/lit/ml/mpds361/mpds361.pdf
footprint PW0016A_N (SOP, 16-Leads, Body 5.1x4.5mm, Pitch 0.65mm, IPC Medium Density)
footprint PW0016A_M (SOP, 16-Leads, Body 5.1x4.5mm, Pitch 0.65mm, IPC Low Density)
footprint PW0016A_L (SOP, 16-Leads, Body 5.1x4.5mm, Pitch 0.65mm, IPC High Density)
pins: 1 ~{A}/B (in), 2 1A (in), 3 1B (in), 4 1Y (out), 5 2A (in), 6 2B (in), 7 2Y (out), 8 GND (power), 9 3Y (out), 10 3B (in), 11 3A (in), 12 4Y (out), 13 4B (in), 14 4A (in), 15 ~{G} (in), 16 VCC (power)

## SN74HC157PWR
designator U?
Quadruple 2-Line To 1-Line Data Selectors/Multiplexers, PW0016A, LARGE T&R; Generic Part Number: SN74HC157; Manufacturer: Texas Instruments; PartNumber: SN74HC157PWR; VCC(Min)(V): 2; VCC(Max)(V): 6; Output Type: CMOS; Function: Encoder/Multiplexer; ICC @ Nom Voltage(Max)(mA): 10; Input Type: LVTTL/CMOS; F @ Nom Voltage(Max)(Mhz): 28; Configuration: 2：1; Channels(#): 4; Rating: Catalog; Technology Family: HC; Voltage(Nom)(V): 3.3,5; Schmitt Trigger: No; Output Drive (IOL/IOH)(Max)(mA): 7.8/-7.8; tpd @ Nom Voltage(Max)(ns): 32; DatasheetVersion: SCLS113D; PackageReference: PW0016A; Supplier 1: Mouser; Supplier Part Number 1: 595-SN74HC157PWR; Supplier 2: Digi-Key; Supplier Part Number 2: 296-29862-2-ND; Supplier 3: Digi-Key; Supplier Part Number 3: 296-29862-1-ND; Supplier 4: Digi-Key; Supplier Part Number 4: 296-29862-6-ND; Bits(#): 2; Operating Temperature Range(C): -40 to 85; Type: Standard; Code_JEDEC: MO-153; ComponentLink1Description: Manufacturer URL; ComponentLink1URL: http://www.ti.com/; ComponentLink2Description: Datasheet; ComponentLink2URL: http://www.ti.com/lit/ds/symlink/sn74hc157.pdf; ComponentLink3Description: Package Specification; ComponentLink3URL: http://www.ti.com/lit/ml/mpds361/mpds361.pdf
footprint PW0016A_N (SOP, 16-Leads, Body 5.1x4.5mm, Pitch 0.65mm, IPC Medium Density)
footprint PW0016A_M (SOP, 16-Leads, Body 5.1x4.5mm, Pitch 0.65mm, IPC Low Density)
footprint PW0016A_L (SOP, 16-Leads, Body 5.1x4.5mm, Pitch 0.65mm, IPC High Density)
pins: 1 ~{A}/B (in), 2 1A (in), 3 1B (in), 4 1Y (out), 5 2A (in), 6 2B (in), 7 2Y (out), 8 GND (power), 9 3Y (out), 10 3B (in), 11 3A (in), 12 4Y (out), 13 4B (in), 14 4A (in), 15 ~{G} (in), 16 VCC (power)

## SN74HC157PWT
designator U?
Quadruple 2-Line To 1-Line Data Selectors/Multiplexers, PW0016A, SMALL T&R; Generic Part Number: SN74HC157; Manufacturer: Texas Instruments; PartNumber: SN74HC157PWT; VCC(Min)(V): 2; VCC(Max)(V): 6; Output Type: CMOS; Function: Encoder/Multiplexer; ICC @ Nom Voltage(Max)(mA): 10; Input Type: LVTTL/CMOS; F @ Nom Voltage(Max)(Mhz): 28; Configuration: 2：1; Channels(#): 4; Rating: Catalog; Technology Family: HC; Voltage(Nom)(V): 3.3,5; Schmitt Trigger: No; Output Drive (IOL/IOH)(Max)(mA): 7.8/-7.8; tpd @ Nom Voltage(Max)(ns): 32; DatasheetVersion: SCLS113D; PackageReference: PW0016A; Supplier 1: Mouser; Supplier Part Number 1: 595-SN74HC157PWT; Supplier 2: Digi-Key; Supplier Part Number 2: SN74HC157PWT-ND; Bits(#): 2; Operating Temperature Range(C): -40 to 85; Type: Standard; Code_JEDEC: MO-153; ComponentLink1Description: Manufacturer URL; ComponentLink1URL: http://www.ti.com/; ComponentLink2Description: Datasheet; ComponentLink2URL: http://www.ti.com/lit/ds/symlink/sn74hc157.pdf; ComponentLink3Description: Package Specification; ComponentLink3URL: http://www.ti.com/lit/ml/mpds361/mpds361.pdf
footprint PW0016A_N (SOP, 16-Leads, Body 5.1x4.5mm, Pitch 0.65mm, IPC Medium Density)
footprint PW0016A_M (SOP, 16-Leads, Body 5.1x4.5mm, Pitch 0.65mm, IPC Low Density)
footprint PW0016A_L (SOP, 16-Leads, Body 5.1x4.5mm, Pitch 0.65mm, IPC High Density)
pins: 1 ~{A}/B (in), 2 1A (in), 3 1B (in), 4 1Y (out), 5 2A (in), 6 2B (in), 7 2Y (out), 8 GND (power), 9 3Y (out), 10 3B (in), 11 3A (in), 12 4Y (out), 13 4B (in), 14 4A (in), 15 ~{G} (in), 16 VCC (power)

## SN74HC158D
designator U?
Quadruple 2-Line To 1-Line Data Selectors/Multiplexers, D0016A, TUBE; Generic Part Number: SN74HC158; Manufacturer: Texas Instruments; PartNumber: SN74HC158D; VCC(Min)(V): 2; VCC(Max)(V): 6; Output Type: CMOS; Function: Encoder/Multiplexer; ICC @ Nom Voltage(Max)(mA): 0.08; Input Type: LVTTL/CMOS; F @ Nom Voltage(Max)(Mhz): 28; Configuration: 2：1; Channels(#): 4; Rating: Catalog; Technology Family: HC; Voltage(Nom)(V): 3.3,5; Schmitt Trigger: No; Output Drive (IOL/IOH)(Max)(mA): 7.8/-7.8; tpd @ Nom Voltage(Max)(ns): 32; DatasheetVersion: SCLS296D; PackageReference: D0016A; Supplier 1: Mouser; Supplier Part Number 1: 595-SN74HC158D; Supplier 2: Digi-Key; Supplier Part Number 2: 296-11857-5-ND; Bits(#): 2; Operating Temperature Range(C): -40 to 85; Type: Standard; Code_JEDEC: MS-012 variation AC; ComponentLink1Description: Manufacturer URL; ComponentLink1URL: http://www.ti.com/; ComponentLink2Description: Datasheet; ComponentLink2URL: http://www.ti.com/lit/ds/symlink/sn74hc158.pdf; ComponentLink3Description: Package Specification; ComponentLink3URL: http://www.ti.com/lit/ml/mpds178g/mpds178g.pdf
footprint D0016A_N (SOIC, 16-Leads, Body 10x4mm, Pitch 1.27mm, IPC Medium Density)
footprint D0016A_M (SOIC, 16-Leads, Body 10x4mm, Pitch 1.27mm, IPC Low Density)
footprint D0016A_L (SOIC, 16-Leads, Body 10x4mm, Pitch 1.27mm, IPC High Density)
pins: 1 ~{A}/B (in), 2 1A (in), 3 1B (in), 4 1Y (out), 5 2A (in), 6 2B (in), 7 2Y (out), 8 GND (power), 9 3Y (out), 10 3B (in), 11 3A (in), 12 4Y (out), 13 4B (in), 14 4A (in), 15 ~{G} (in), 16 VCC (power)

## SN74HC158DR
designator U?
Quadruple 2-Line To 1-Line Data Selectors/Multiplexers, D0016A, LARGE T&R; Generic Part Number: SN74HC158; Manufacturer: Texas Instruments; PartNumber: SN74HC158DR; VCC(Min)(V): 2; VCC(Max)(V): 6; Output Type: CMOS; Function: Encoder/Multiplexer; ICC @ Nom Voltage(Max)(mA): 0.08; Input Type: LVTTL/CMOS; F @ Nom Voltage(Max)(Mhz): 28; Configuration: 2：1; Channels(#): 4; Rating: Catalog; Technology Family: HC; Voltage(Nom)(V): 3.3,5; Schmitt Trigger: No; Output Drive (IOL/IOH)(Max)(mA): 7.8/-7.8; tpd @ Nom Voltage(Max)(ns): 32; DatasheetVersion: SCLS296D; PackageReference: D0016A; Supplier 1: Mouser; Supplier Part Number 1: 595-SN74HC158DR; Supplier 2: Digi-Key; Supplier Part Number 2: SN74HC158DR-ND; Bits(#): 2; Operating Temperature Range(C): -40 to 85; Type: Standard; Code_JEDEC: MS-012 variation AC; ComponentLink1Description: Manufacturer URL; ComponentLink1URL: http://www.ti.com/; ComponentLink2Description: Datasheet; ComponentLink2URL: http://www.ti.com/lit/ds/symlink/sn74hc158.pdf; ComponentLink3Description: Package Specification; ComponentLink3URL: http://www.ti.com/lit/ml/mpds178g/mpds178g.pdf
footprint D0016A_N (SOIC, 16-Leads, Body 10x4mm, Pitch 1.27mm, IPC Medium Density)
footprint D0016A_M (SOIC, 16-Leads, Body 10x4mm, Pitch 1.27mm, IPC Low Density)
footprint D0016A_L (SOIC, 16-Leads, Body 10x4mm, Pitch 1.27mm, IPC High Density)
pins: 1 ~{A}/B (in), 2 1A (in), 3 1B (in), 4 1Y (out), 5 2A (in), 6 2B (in), 7 2Y (out), 8 GND (power), 9 3Y (out), 10 3B (in), 11 3A (in), 12 4Y (out), 13 4B (in), 14 4A (in), 15 ~{G} (in), 16 VCC (power)

## SN74HC158DT
designator U?
Quadruple 2-Line To 1-Line Data Selectors/Multiplexers, D0016A, SMALL T&R; Generic Part Number: SN74HC158; Manufacturer: Texas Instruments; PartNumber: SN74HC158DT; VCC(Min)(V): 2; VCC(Max)(V): 6; Output Type: CMOS; Function: Encoder/Multiplexer; ICC @ Nom Voltage(Max)(mA): 0.08; Input Type: LVTTL/CMOS; F @ Nom Voltage(Max)(Mhz): 28; Configuration: 2：1; Channels(#): 4; Rating: Catalog; Technology Family: HC; Voltage(Nom)(V): 3.3,5; Schmitt Trigger: No; Output Drive (IOL/IOH)(Max)(mA): 7.8/-7.8; tpd @ Nom Voltage(Max)(ns): 32; DatasheetVersion: SCLS296D; PackageReference: D0016A; Supplier 1: Mouser; Supplier Part Number 1: 595-SN74HC158DT; Supplier 2: Digi-Key; Supplier Part Number 2: 296-31789-2-ND; Supplier 3: Digi-Key; Supplier Part Number 3: 296-31789-1-ND; Supplier 4: Digi-Key; Supplier Part Number 4: 296-31789-6-ND; Bits(#): 2; Operating Temperature Range(C): -40 to 85; Type: Standard; Code_JEDEC: MS-012 variation AC; ComponentLink1Description: Manufacturer URL; ComponentLink1URL: http://www.ti.com/; ComponentLink2Description: Datasheet; ComponentLink2URL: http://www.ti.com/lit/ds/symlink/sn74hc158.pdf; ComponentLink3Description: Package Specification; ComponentLink3URL: http://www.ti.com/lit/ml/mpds178g/mpds178g.pdf
footprint D0016A_N (SOIC, 16-Leads, Body 10x4mm, Pitch 1.27mm, IPC Medium Density)
footprint D0016A_M (SOIC, 16-Leads, Body 10x4mm, Pitch 1.27mm, IPC Low Density)
footprint D0016A_L (SOIC, 16-Leads, Body 10x4mm, Pitch 1.27mm, IPC High Density)
pins: 1 ~{A}/B (in), 2 1A (in), 3 1B (in), 4 1Y (out), 5 2A (in), 6 2B (in), 7 2Y (out), 8 GND (power), 9 3Y (out), 10 3B (in), 11 3A (in), 12 4Y (out), 13 4B (in), 14 4A (in), 15 ~{G} (in), 16 VCC (power)

## SN74HC158N
designator U?
Quadruple 2-Line To 1-Line Data Selectors/Multiplexers, N0016A, TUBE; Generic Part Number: SN74HC158; Manufacturer: Texas Instruments; PartNumber: SN74HC158N; VCC(Min)(V): 2; VCC(Max)(V): 6; Output Type: CMOS; Function: Encoder/Multiplexer; ICC @ Nom Voltage(Max)(mA): 0.08; Input Type: LVTTL/CMOS; F @ Nom Voltage(Max)(Mhz): 28; Configuration: 2：1; Channels(#): 4; Rating: Catalog; Technology Family: HC; Voltage(Nom)(V): 3.3,5; Schmitt Trigger: No; Output Drive (IOL/IOH)(Max)(mA): 7.8/-7.8; tpd @ Nom Voltage(Max)(ns): 32; DatasheetVersion: SCLS296D; PackageReference: N0016A; Supplier 1: Mouser; Supplier Part Number 1: 595-SN74HC158N; Supplier 2: Digi-Key; Supplier Part Number 2: 296-11853-5-ND; Bits(#): 2; Operating Temperature Range(C): -40 to 85; Type: Standard; Code_JEDEC: MS-001; ComponentLink1Description: Manufacturer URL; ComponentLink1URL: http://www.ti.com/; ComponentLink2Description: Datasheet; ComponentLink2URL: http://www.ti.com/lit/ds/symlink/sn74hc158.pdf; ComponentLink3Description: Package Specification; ComponentLink3URL: http://www.ti.com/lit/ml/mpdi002c/mpdi002c.pdf
footprint N0016A (DIP, 16-Leads, Body 19.7x6.6mm, Pitch 2.54mm)
pins: 1 ~{A}/B (in), 2 1A (in), 3 1B (in), 4 1Y (out), 5 2A (in), 6 2B (in), 7 2Y (out), 8 GND (power), 9 3Y (out), 10 3B (in), 11 3A (in), 12 4Y (out), 13 4B (in), 14 4A (in), 15 ~{G} (in), 16 VCC (power)

## SN74HC158NSR
designator U?
Quadruple 2-Line To 1-Line Data Selectors/Multiplexers, NS0016A, LARGE T&R; Generic Part Number: SN74HC158; Manufacturer: Texas Instruments; PartNumber: SN74HC158NSR; VCC(Min)(V): 2; VCC(Max)(V): 6; Output Type: CMOS; Function: Encoder/Multiplexer; ICC @ Nom Voltage(Max)(mA): 0.08; Input Type: LVTTL/CMOS; F @ Nom Voltage(Max)(Mhz): 28; Configuration: 2：1; Channels(#): 4; Rating: Catalog; Technology Family: HC; Voltage(Nom)(V): 3.3,5; Schmitt Trigger: No; Output Drive (IOL/IOH)(Max)(mA): 7.8/-7.8; tpd @ Nom Voltage(Max)(ns): 32; DatasheetVersion: SCLS296D; PackageReference: NS0016A; Supplier 1: Mouser; Supplier Part Number 1: 595-SN74HC158NSR; Supplier 2: Digi-Key; Supplier Part Number 2: 296-28803-2-ND; Supplier 3: Digi-Key; Supplier Part Number 3: 296-28803-1-ND; Supplier 4: Digi-Key; Supplier Part Number 4: 296-28803-6-ND; Bits(#): 2; Operating Temperature Range(C): -40 to 85; Type: Standard; ComponentLink1Description: Manufacturer URL; ComponentLink1URL: http://www.ti.com/; ComponentLink2Description: Datasheet; ComponentLink2URL: http://www.ti.com/lit/ds/symlink/sn74hc158.pdf; ComponentLink3Description: Package Specification; ComponentLink3URL: http://www.ti.com/lit/ml/msop002a/msop002a.pdf
footprint NS0016A_N (SOIC,16-Leads,Body 10.5x5.6mm,Pitch 1.27mm,IPC Medium Density)
footprint NS0016A_M (SOIC,16-Leads,Body 10.5x5.6mm,Pitch 1.27mm,IPC Low Density)
footprint NS0016A_L (SOIC,16-Leads,Body 10.5x5.6mm,Pitch 1.27mm,IPC High Density)
pins: 1 ~{A}/B (in), 2 1A (in), 3 1B (in), 4 1Y (out), 5 2A (in), 6 2B (in), 7 2Y (out), 8 GND (power), 9 3Y (out), 10 3B (in), 11 3A (in), 12 4Y (out), 13 4B (in), 14 4A (in), 15 ~{G} (in), 16 VCC (power)

## SN74HC158PW
designator U?
Quadruple 2-Line To 1-Line Data Selectors/Multiplexers, PW0016A, TUBE; Generic Part Number: SN74HC158; Manufacturer: Texas Instruments; PartNumber: SN74HC158PW; VCC(Min)(V): 2; VCC(Max)(V): 6; Output Type: CMOS; Function: Encoder/Multiplexer; ICC @ Nom Voltage(Max)(mA): 0.08; Input Type: LVTTL/CMOS; F @ Nom Voltage(Max)(Mhz): 28; Configuration: 2：1; Channels(#): 4; Rating: Catalog; Technology Family: HC; Voltage(Nom)(V): 3.3,5; Schmitt Trigger: No; Output Drive (IOL/IOH)(Max)(mA): 7.8/-7.8; tpd @ Nom Voltage(Max)(ns): 32; DatasheetVersion: SCLS296D; PackageReference: PW0016A; Supplier 1: Mouser; Supplier Part Number 1: 595-SN74HC158PW; Supplier 2: Digi-Key; Supplier Part Number 2: 296-33921-5-ND; Bits(#): 2; Operating Temperature Range(C): -40 to 85; Type: Standard; Code_JEDEC: MO-153; ComponentLink1Description: Manufacturer URL; ComponentLink1URL: http://www.ti.com/; ComponentLink2Description: Datasheet; ComponentLink2URL: http://www.ti.com/lit/ds/symlink/sn74hc158.pdf; ComponentLink3Description: Package Specification; ComponentLink3URL: http://www.ti.com/lit/ml/mpds361/mpds361.pdf
footprint PW0016A_N (SOP, 16-Leads, Body 5.1x4.5mm, Pitch 0.65mm, IPC Medium Density)
footprint PW0016A_M (SOP, 16-Leads, Body 5.1x4.5mm, Pitch 0.65mm, IPC Low Density)
footprint PW0016A_L (SOP, 16-Leads, Body 5.1x4.5mm, Pitch 0.65mm, IPC High Density)
pins: 1 ~{A}/B (in), 2 1A (in), 3 1B (in), 4 1Y (out), 5 2A (in), 6 2B (in), 7 2Y (out), 8 GND (power), 9 3Y (out), 10 3B (in), 11 3A (in), 12 4Y (out), 13 4B (in), 14 4A (in), 15 ~{G} (in), 16 VCC (power)

## SN74HC158PWR
designator U?
Quadruple 2-Line To 1-Line Data Selectors/Multiplexers, PW0016A, LARGE T&R; Generic Part Number: SN74HC158; Manufacturer: Texas Instruments; PartNumber: SN74HC158PWR; VCC(Min)(V): 2; VCC(Max)(V): 6; Output Type: CMOS; Function: Encoder/Multiplexer; ICC @ Nom Voltage(Max)(mA): 0.08; Input Type: LVTTL/CMOS; F @ Nom Voltage(Max)(Mhz): 28; Configuration: 2：1; Channels(#): 4; Rating: Catalog; Technology Family: HC; Voltage(Nom)(V): 3.3,5; Schmitt Trigger: No; Output Drive (IOL/IOH)(Max)(mA): 7.8/-7.8; tpd @ Nom Voltage(Max)(ns): 32; DatasheetVersion: SCLS296D; PackageReference: PW0016A; Supplier 1: Mouser; Supplier Part Number 1: 595-SN74HC158PWR; Supplier 2: Digi-Key; Supplier Part Number 2: 296-38230-2-ND; Supplier 3: Digi-Key; Supplier Part Number 3: 296-38230-1-ND; Supplier 4: Digi-Key; Supplier Part Number 4: 296-38230-6-ND; Bits(#): 2; Operating Temperature Range(C): -40 to 85; Type: Standard; Code_JEDEC: MO-153; ComponentLink1Description: Manufacturer URL; ComponentLink1URL: http://www.ti.com/; ComponentLink2Description: Datasheet; ComponentLink2URL: http://www.ti.com/lit/ds/symlink/sn74hc158.pdf; ComponentLink3Description: Package Specification; ComponentLink3URL: http://www.ti.com/lit/ml/mpds361/mpds361.pdf
footprint PW0016A_N (SOP, 16-Leads, Body 5.1x4.5mm, Pitch 0.65mm, IPC Medium Density)
footprint PW0016A_M (SOP, 16-Leads, Body 5.1x4.5mm, Pitch 0.65mm, IPC Low Density)
footprint PW0016A_L (SOP, 16-Leads, Body 5.1x4.5mm, Pitch 0.65mm, IPC High Density)
pins: 1 ~{A}/B (in), 2 1A (in), 3 1B (in), 4 1Y (out), 5 2A (in), 6 2B (in), 7 2Y (out), 8 GND (power), 9 3Y (out), 10 3B (in), 11 3A (in), 12 4Y (out), 13 4B (in), 14 4A (in), 15 ~{G} (in), 16 VCC (power)

## SN74HC161D
designator U?
4-Bit Synchronous Binary Counters, D0016A, TUBE; Generic Part Number: SN74HC161; Manufacturer: Texas Instruments; PartNumber: SN74HC161D; VCC(Min)(V): 2; VCC(Max)(V): 6; Output Type: CMOS; Inputs: 1; ICC @ Nom Voltage(Max)(mA): 0.08; Input Type: LVTTL/CMOS; Bits(#): 4; F @ Nom Voltage(Max)(Mhz): 28; Rating: Catalog; Technology Family: HC; Voltage(Nom)(V): 3.3,5; Schmitt Trigger: No; Output Drive (IOL/IOH)(Max)(mA): 5.2/-5.2; tpd @ Nom Voltage(Max)(ns): 46; DatasheetVersion: SCLS297D; PackageReference: D0016A; Supplier 1: Mouser; Supplier Part Number 1: 595-SN74HC161D; Supplier 2: Digi-Key; Supplier Part Number 2: 296-8243-5-ND; Function: Counter; Operating Temperature Range(C): -40 to 85; Type: Binary; Code_JEDEC: MS-012 variation AC; ComponentLink1Description: Manufacturer URL; ComponentLink1URL: http://www.ti.com/; ComponentLink2Description: Datasheet; ComponentLink2URL: http://www.ti.com/lit/ds/symlink/sn74hc161.pdf; ComponentLink3Description: Package Specification; ComponentLink3URL: http://www.ti.com/lit/ml/mpds178g/mpds178g.pdf
footprint D0016A_N (SOIC, 16-Leads, Body 10x4mm, Pitch 1.27mm, IPC Medium Density)
footprint D0016A_M (SOIC, 16-Leads, Body 10x4mm, Pitch 1.27mm, IPC Low Density)
footprint D0016A_L (SOIC, 16-Leads, Body 10x4mm, Pitch 1.27mm, IPC High Density)
pins: 1 ~{CLR} (in), 2 CLK (in), 3 A (in), 4 B (in), 5 C (in), 6 D (in), 7 ENP (in), 8 GND (power), 9 ~{LOAD} (in), 10 ENT (in), 11 QD (out), 12 QC (out), 13 QB (out), 14 QA (out), 15 RCO (out), 16 VCC (power)

## SN74HC161DR
designator U?
4-Bit Synchronous Binary Counters, D0016A, LARGE T&R; Generic Part Number: SN74HC161; Manufacturer: Texas Instruments; PartNumber: SN74HC161DR; VCC(Min)(V): 2; VCC(Max)(V): 6; Output Type: CMOS; Inputs: 1; ICC @ Nom Voltage(Max)(mA): 0.08; Input Type: LVTTL/CMOS; Bits(#): 4; F @ Nom Voltage(Max)(Mhz): 28; Rating: Catalog; Technology Family: HC; Voltage(Nom)(V): 3.3,5; Schmitt Trigger: No; Output Drive (IOL/IOH)(Max)(mA): 5.2/-5.2; tpd @ Nom Voltage(Max)(ns): 46; DatasheetVersion: SCLS297D; PackageReference: D0016A; Supplier 1: Mouser; Supplier Part Number 1: 595-SN74HC161DR; Supplier 2: Digi-Key; Supplier Part Number 2: 296-14837-2-ND; Supplier 3: Digi-Key; Supplier Part Number 3: 296-14837-1-ND; Supplier 4: Digi-Key; Supplier Part Number 4: 296-14837-6-ND; Function: Counter; Operating Temperature Range(C): -40 to 85; Type: Binary; Code_JEDEC: MS-012 variation AC; ComponentLink1Description: Manufacturer URL; ComponentLink1URL: http://www.ti.com/; ComponentLink2Description: Datasheet; ComponentLink2URL: http://www.ti.com/lit/ds/symlink/sn74hc161.pdf; ComponentLink3Description: Package Specification; ComponentLink3URL: http://www.ti.com/lit/ml/mpds178g/mpds178g.pdf
footprint D0016A_N (SOIC, 16-Leads, Body 10x4mm, Pitch 1.27mm, IPC Medium Density)
footprint D0016A_M (SOIC, 16-Leads, Body 10x4mm, Pitch 1.27mm, IPC Low Density)
footprint D0016A_L (SOIC, 16-Leads, Body 10x4mm, Pitch 1.27mm, IPC High Density)
pins: 1 ~{CLR} (in), 2 CLK (in), 3 A (in), 4 B (in), 5 C (in), 6 D (in), 7 ENP (in), 8 GND (power), 9 ~{LOAD} (in), 10 ENT (in), 11 QD (out), 12 QC (out), 13 QB (out), 14 QA (out), 15 RCO (out), 16 VCC (power)